# Altium schematic symbol library Trans_Infineon_BSS138WH6433XTMA1_eec.SchLib: 1 symbol
Pins are listed as number, name and electrical type; pins without a type are passive.

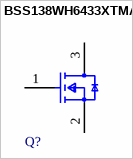
[diagram p0: symbol BSS138WH6433XTMA1]

## BSS138WH6433XTMA1
designator Q?  (value not drawn)
pins: 1 GATE, 2 SOURCE, 3 DRAIN